# Altium schematic symbol library WR-WTB_1.00mm.SchLib: 14 symbols
Pins are listed as number, name and electrical type; pins without a type are passive.

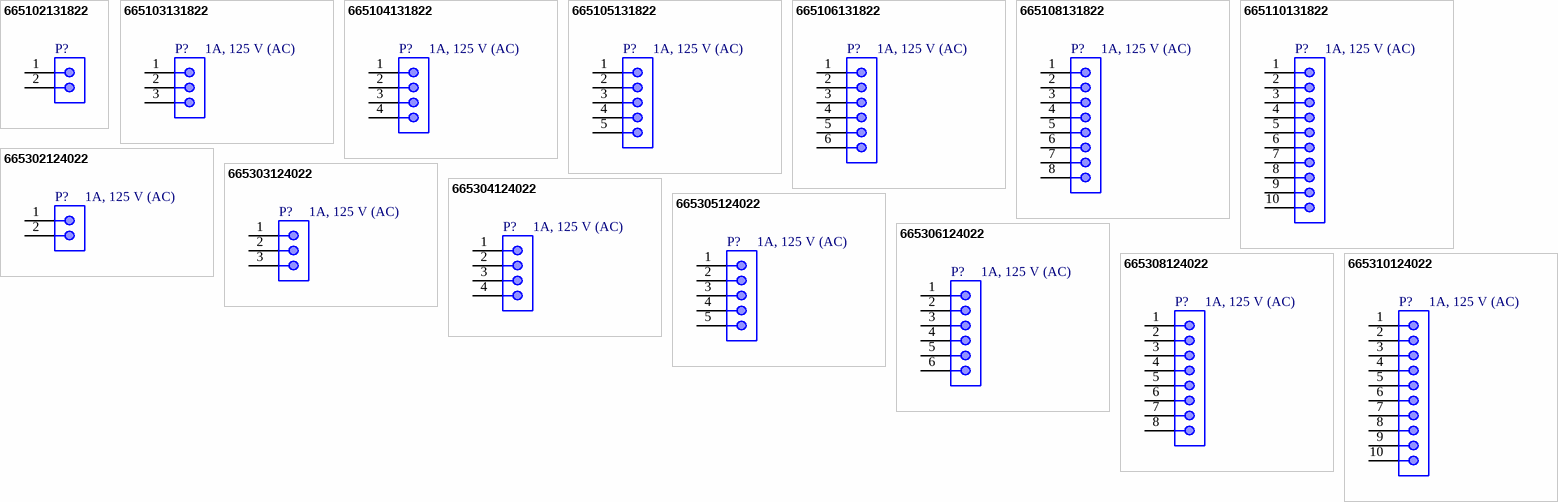
[diagram p0: symbols 665102131822 to 665310124022]

## 665102131822
designator P?, comment 1A, 125 V (AC)  (value not drawn)
WR-WTB SMT Male Horizontal Shrouded Header, pitch 1mm, 2p; Part Number: 665102131822; Contact Resistance: 20mOhm; Withstanding Voltage: 500VAC; Working Voltage: 50VAC; Pin Number: 2; ComponentLink1Description: Manufacturer; ComponentLink1URL: http://www.we-online.de; ComponentLink2Description: Datasheet; ComponentLink2URL: https://www.we-online.com/catalog/datasheet/665102131822.pdf; Pitch: 1mm; Published Date: January 2020; Publisher: Wurth Elektronik; Mounting Technology: SMT; Packaging: Tape and Reel; Operating Temperature: -25 to +85degC; Gender: Male; Type: Horizontal; Rated Current: 1A; ComponentLink3Description: Global Supply; ComponentLink3URL: https://www.we-online.com/en/components/products/WTB_1_00_SMT_MALE_HORIZONTAL_SHROUDED_HEADER_6651XX131822?sq=665102131822#665102131822; ComponentLink4Description: Global Supply; ComponentLink4URL: https://www.mouser.vn/ProductDetail/Wurth-Elektronik/665102131822?qs=a9WhcLg8qCyfz%252BqUVI6DEA%3D%3D; Supplier 1 Name: Mouser; Supplier 1 SN: 710-665102131822; Supplier 1 URL: https://www.mouser.vn/ProductDetail/Wurth-Elektronik/665102131822?qs=a9WhcLg8qCyfz%252BqUVI6DEA%3D%3D; Supplier 2 Name: Digi-Key; Supplier 2 SN: N/A; Supplier 2 URL: N/A; Supplier 3 Name: thegioiic; Supplier 3 SN: N/A; Supplier 3 URL: N/A; Value: 1A, 125 V (AC)
footprint 665102131822
pins: 1, 2

## 665103131822
designator P?, comment 1A, 125 V (AC)
WR-WTB SMT Male Horizontal Shrouded Header, pitch 1mm, 3p; Part Number: 665103131822; Pin Number: 3; Contact Resistance: 20mOhm; Withstanding Voltage: 500VAC; Working Voltage: 50VAC; ComponentLink1Description: Manufacturer; ComponentLink1URL: http://www.we-online.de; ComponentLink2Description: Datasheet; ComponentLink2URL: https://www.we-online.com/catalog/datasheet/665103131822.pdf; Pitch: 1mm; Published Date: January 2020; Publisher: Wurth Elektronik; Mounting Technology: SMT; Packaging: Tape and Reel; Operating Temperature: -25 to +85degC; Gender: Male; Type: Horizontal; Rated Current: 1A; ComponentLink3Description: Global Supply; ComponentLink3URL: https://www.we-online.com/en/components/products/WTB_1_00_SMT_MALE_HORIZONTAL_SHROUDED_HEADER_6651XX131822?sq=665103131822#665103131822; ComponentLink4Description: Global Supply; ComponentLink4URL: https://www.mouser.vn/ProductDetail/Wurth-Elektronik/665103131822?qs=a9WhcLg8qCxyoubUoVempg%3D%3D; Supplier 1 Name: Mouser; Supplier 1 SN: 710-665103131822; Supplier 1 URL: https://www.mouser.vn/ProductDetail/Wurth-Elektronik/665103131822?qs=a9WhcLg8qCxyoubUoVempg%3D%3D; Supplier 2 Name: Digi-Key; Supplier 2 SN: N/A; Supplier 2 URL: N/A; Supplier 3 Name: thegioiic; Supplier 3 SN: N/A; Supplier 3 URL: N/A; Value: 1A, 125 V (AC)
footprint 665103131822
pins: 1, 2, 3

## 665104131822
designator P?, comment 1A, 125 V (AC)
WR-WTB SMT Male Horizontal Shrouded Header, pitch 1mm, 4p; Part Number: 665104131822; Pin Number: 4; Contact Resistance: 20mOhm; Withstanding Voltage: 500VAC; Working Voltage: 50VAC; ComponentLink1Description: Manufacturer; ComponentLink1URL: http://www.we-online.de; ComponentLink2Description: Datasheet; ComponentLink2URL: https://www.we-online.com/catalog/datasheet/665104131822.pdf; Pitch: 1mm; Published Date: January 2020; Publisher: Wurth Elektronik; Mounting Technology: SMT; Packaging: Tape and Reel; Operating Temperature: -25 to +85degC; Gender: Male; Type: Horizontal; Rated Current: 1A; ComponentLink3Description: Global Supply; ComponentLink3URL: https://www.we-online.com/en/components/products/WTB_1_00_SMT_MALE_HORIZONTAL_SHROUDED_HEADER_6651XX131822?sq=665104131822#665104131822; ComponentLink4Description: Global Supply; ComponentLink4URL: https://www.mouser.vn/ProductDetail/Wurth-Elektronik/665104131822?qs=a9WhcLg8qCxe2o4Xu%2FqBdg%3D%3D; Supplier 1 Name: Mouser; Supplier 1 SN: 710-665104131822; Supplier 1 URL: https://www.mouser.vn/ProductDetail/Wurth-Elektronik/665104131822?qs=a9WhcLg8qCxe2o4Xu%2FqBdg%3D%3D; Supplier 2 Name: Digi-Key; Supplier 2 SN: N/A; Supplier 2 URL: N/A; Supplier 3 Name: thegioiic; Supplier 3 SN: N/A; Supplier 3 URL: N/A; Value: 1A, 125 V (AC)
footprint 665104131822
pins: 1, 2, 3, 4

## 665105131822
designator P?, comment 1A, 125 V (AC)
WR-WTB SMT Male Horizontal Shrouded Header, pitch 1mm, 5p; Part Number: 665105131822; Pin Number: 5; Contact Resistance: 20mOhm; Withstanding Voltage: 500VAC; Working Voltage: 50VAC; ComponentLink1Description: Manufacturer; ComponentLink1URL: http://www.we-online.de; ComponentLink2Description: Datasheet; ComponentLink2URL: https://www.we-online.com/catalog/datasheet/665105131822.pdf; Pitch: 1mm; Published Date: January 2020; Publisher: Wurth Elektronik; Mounting Technology: SMT; Packaging: Tape and Reel; Operating Temperature: -25 to +85degC; Gender: Male; Type: Horizontal; Rated Current: 1A; ComponentLink3Description: Global Supply; ComponentLink3URL: https://www.we-online.com/en/components/products/WTB_1_00_SMT_MALE_HORIZONTAL_SHROUDED_HEADER_6651XX131822?sq=665105131822#665105131822; ComponentLink4Description: Local Supply; ComponentLink4URL: https://www.mouser.vn/ProductDetail/Wurth-Elektronik/665105131822?qs=a9WhcLg8qCxS6l8cra2J9Q%3D%3D; Supplier 1 Name: Mouser; Supplier 1 SN: 710-665105131822; Supplier 1 URL: https://www.mouser.vn/ProductDetail/Wurth-Elektronik/665105131822?qs=a9WhcLg8qCxS6l8cra2J9Q%3D%3D; Supplier 2 Name: Digi-Key; Supplier 2 SN: N/A; Supplier 2 URL: N/A; Supplier 3 Name: thegioiic; Supplier 3 SN: N/A; Supplier 3 URL: N/A; Value: 1A, 125 V (AC)
footprint 665105131822
pins: 1, 2, 3, 4, 5

## 665106131822
designator P?, comment 1A, 125 V (AC)
WR-WTB SMT Male Horizontal Shrouded Header, pitch 1mm, 6p; Part Number: 665106131822; Pin Number: 6; Contact Resistance: 20mOhm; Withstanding Voltage: 500VAC; Working Voltage: 50VAC; ComponentLink1Description: Manufacturer; ComponentLink1URL: http://www.we-online.de; ComponentLink2Description: Datasheet; ComponentLink2URL: https://www.we-online.com/catalog/datasheet/665106131822.pdf; Pitch: 1mm; Published Date: January 2020; Publisher: Wurth Elektronik; Mounting Technology: SMT; Packaging: Tape and Reel; Operating Temperature: -25 to +85degC; Gender: Male; Type: Horizontal; Rated Current: 1A; ComponentLink3Description: Global Supply; ComponentLink3URL: https://www.mouser.vn/ProductDetail/Wurth-Elektronik/665106131822?qs=a9WhcLg8qCzjoKPkPpCp%2FA%3D%3D; ComponentLink4Description: Global Supply; ComponentLink4URL: https://www.we-online.com/en/components/products/WTB_1_00_SMT_MALE_HORIZONTAL_SHROUDED_HEADER_6651XX131822?sq=665106131822#665106131822; Supplier 1 Name: Mouser; Supplier 1 SN: 710-665106131822; Supplier 1 URL: https://www.mouser.vn/ProductDetail/Wurth-Elektronik/665106131822?qs=a9WhcLg8qCzjoKPkPpCp%2FA%3D%3D; Supplier 2 Name: Digi-Key; Supplier 2 SN: N/A; Supplier 2 URL: N/A; Supplier 3 Name: thegioiic; Supplier 3 SN: N/A; Supplier 3 URL: N/A; Value: 1A, 125 V (AC)
footprint 665106131822
pins: 1, 2, 3, 4, 5, 6

## 665108131822
designator P?, comment 1A, 125 V (AC)
WR-WTB SMT Male Horizontal Shrouded Header, pitch 1mm, 8p; Part Number: 665108131822; Pin Number: 8; Contact Resistance: 20mOhm; Withstanding Voltage: 500VAC; Working Voltage: 50VAC; ComponentLink1Description: Manufacturer; ComponentLink1URL: http://www.we-online.de; ComponentLink2Description: Datasheet; ComponentLink2URL: https://www.we-online.com/catalog/datasheet/665108131822.pdf; Pitch: 1mm; Published Date: January 2020; Publisher: Wurth Elektronik; Mounting Technology: SMT; Packaging: Tape and Reel; Operating Temperature: -25 to +85degC; Gender: Male; Type: Horizontal; Rated Current: 1A; ComponentLink3Description: Global Supply; ComponentLink3URL: https://www.we-online.com/en/components/products/WTB_1_00_SMT_MALE_HORIZONTAL_SHROUDED_HEADER_6651XX131822?sq=665108131822#665108131822; ComponentLink4Description: Global Supply; ComponentLink4URL: https://www.mouser.vn/ProductDetail/Wurth-Elektronik/665108131822?qs=a9WhcLg8qCyjJKQ1fQ4DGg%3D%3D; Supplier 1 Name: Mouser; Supplier 1 SN: 710-665108131822; Supplier 1 URL: https://www.mouser.vn/ProductDetail/Wurth-Elektronik/665108131822?qs=a9WhcLg8qCyjJKQ1fQ4DGg%3D%3D; Supplier 2 Name: Digi-Key; Supplier 2 SN: N/A; Supplier 2 URL: N/A; Supplier 3 Name: thegioiic; Supplier 3 SN: N/A; Supplier 3 URL: N/A; Value: 1A, 125 V (AC)
footprint 665108131822
pins: 1, 2, 3, 4, 5, 6, 7, 8

## 665110131822
designator P?, comment 1A, 125 V (AC)
WR-WTB SMT Male Horizontal Shrouded Header, pitch 1mm, 10p; Part Number: 665110131822; Pin Number: 10; Contact Resistance: 20mOhm; Withstanding Voltage: 500VAC; Working Voltage: 50VAC; ComponentLink1Description: Manufacturer; ComponentLink1URL: http://www.we-online.de; ComponentLink2Description: Datasheet; ComponentLink2URL: https://www.we-online.com/catalog/datasheet/665110131822.pdf; Pitch: 1mm; Published Date: January 2020; Publisher: Wurth Elektronik; Mounting Technology: SMT; Packaging: Tape and Reel; Operating Temperature: -25 to +85degC; Gender: Male; Type: Horizontal; Rated Current: 1A; ComponentLink3Description: Global Supply; ComponentLink3URL: https://www.we-online.com/en/components/products/WTB_1_00_SMT_MALE_HORIZONTAL_SHROUDED_HEADER_6651XX131822?sq=665110131822#665110131822; ComponentLink4Description: Global Supply; ComponentLink4URL: https://www.mouser.vn/ProductDetail/Wurth-Elektronik/665110131822?qs=a9WhcLg8qCwEjDOe0bibPQ%3D%3D; Supplier 1 Name: Mouser; Supplier 1 SN: 710-665110131822; Supplier 1 URL: https://www.mouser.vn/ProductDetail/Wurth-Elektronik/665110131822?qs=a9WhcLg8qCwEjDOe0bibPQ%3D%3D; Supplier 2 Name: Digi-Key; Supplier 2 SN: N/A; Supplier 2 URL: N/A; Supplier 3 Name: thegioiic; Supplier 3 SN: N/A; Supplier 3 URL: N/A; Value: 1A, 125 V (AC)
footprint 665110131822
pins: 1, 2, 3, 4, 5, 6, 7, 8, 9, 10

## 665302124022
designator P?, comment 1A, 125 V (AC)
WR-WTB SMT Male Vertical Shrouded Header, pitch 1mm, 2p; Part Number: 665302124022; Pin Number: 2; Contact Resistance: 20mOhm; Withstanding Voltage: 500VAC; Working Voltage: 50VAC; ComponentLink1Description: Manufacturer; ComponentLink1URL: http://www.we-online.de; ComponentLink2Description: Datasheet; ComponentLink2URL: https://www.we-online.com/catalog/datasheet/665302124022.pdf; Pitch: 1mm; Published Date: January 2020; Publisher: Wurth Elektronik; Mounting Technology: SMT; Packaging: Tape and Reel; Operating Temperature: -25 to +85degC; Gender: Male; Type: Vertical; Rated Current: 1A; ComponentLink3Description: Global Supply; ComponentLink3URL: https://www.we-online.com/en/components/products/WTB_1_00_SMT_MALE_VERTICAL_SHROUDED_HEADER_6653XX124022?sq=665302124022#665302124022; ComponentLink4Description: Global Supply; ComponentLink4URL: https://www.mouser.vn/ProductDetail/Wurth-Elektronik/665302124022?qs=a9WhcLg8qCx0IT99cXBqTA%3D%3D; Supplier 1 Name: Mouser; Supplier 1 SN: 710-665302124022; Supplier 1 URL: https://www.mouser.vn/ProductDetail/Wurth-Elektronik/665302124022?qs=a9WhcLg8qCx0IT99cXBqTA%3D%3D; Supplier 2 Name: Digi-Key; Supplier 2 SN: N/A; Supplier 2 URL: N/A; Supplier 3 Name: thegioiic; Supplier 3 SN: N/A; Supplier 3 URL: N/A; Value: 1A, 125 V (AC)
footprint 665302124022
pins: 1, 2

## 665303124022
designator P?, comment 1A, 125 V (AC)
WR-WTB SMT Male Vertical Shrouded Header, pitch 1mm, 3p; Part Number: 665303124022; Pin Number: 3; Contact Resistance: 20mOhm; Withstanding Voltage: 500VAC; Working Voltage: 50VAC; ComponentLink1Description: Manufacturer; ComponentLink1URL: http://www.we-online.de; ComponentLink2Description: Datasheet; ComponentLink2URL: https://www.we-online.com/catalog/datasheet/665303124022.pdf; Pitch: 1mm; Published Date: January 2020; Publisher: Wurth Elektronik; Mounting Technology: SMT; Packaging: Tape and Reel; Operating Temperature: -25 to +85degC; Gender: Male; Type: Vertical; Rated Current: 1A; ComponentLink3Description: Global Supply; ComponentLink3URL: https://www.we-online.com/en/components/products/WTB_1_00_SMT_MALE_VERTICAL_SHROUDED_HEADER_6653XX124022?sq=665303124022#665303124022; ComponentLink4Description: Global Supply; ComponentLink4URL: https://www.mouser.vn/ProductDetail/Wurth-Elektronik/665303124022?qs=a9WhcLg8qCyV5ri9HU4hCQ%3D%3D; Supplier 1 Name: Mouser; Supplier 1 SN: 710-665303124022; Supplier 1 URL: https://www.mouser.vn/ProductDetail/Wurth-Elektronik/665303124022?qs=a9WhcLg8qCyV5ri9HU4hCQ%3D%3D; Supplier 2 Name: Digi-Key; Supplier 2 SN: N/A; Supplier 2 URL: N/A; Supplier 3 Name: thegioiic; Supplier 3 SN: N/A; Supplier 3 URL: N/A; Value: 1A, 125 V (AC)
footprint 665303124022
pins: 1, 2, 3

## 665304124022
designator P?, comment 1A, 125 V (AC)
WR-WTB SMT Male Vertical Shrouded Header, pitch 1mm, 4p; Part Number: 665304124022; Pin Number: 4; Contact Resistance: 20mOhm; Withstanding Voltage: 500VAC; Working Voltage: 50VAC; ComponentLink1Description: Manufacturer; ComponentLink1URL: http://www.we-online.de; ComponentLink2Description: Datasheet; ComponentLink2URL: https://www.we-online.com/catalog/datasheet/665304124022.pdf; Pitch: 1mm; Published Date: January 2020; Publisher: Wurth Elektronik; Mounting Technology: SMT; Packaging: Tape and Reel; Operating Temperature: -25 to +85degC; Gender: Male; Type: Vertical; Rated Current: 1A; ComponentLink3Description: Global Supply; ComponentLink3URL: https://www.we-online.com/en/components/products/WTB_1_00_SMT_MALE_VERTICAL_SHROUDED_HEADER_6653XX124022?sq=665304124022#665304124022; ComponentLink4Description: Global Supply; ComponentLink4URL: https://www.mouser.vn/ProductDetail/Wurth-Elektronik/665304124022?qs=a9WhcLg8qCx8aEna1KcTfg%3D%3D; Supplier 1 Name: Mouser; Supplier 1 SN: 710-665304124022; Supplier 1 URL: https://www.mouser.vn/ProductDetail/Wurth-Elektronik/665304124022?qs=a9WhcLg8qCx8aEna1KcTfg%3D%3D; Supplier 2 Name: Digi-Key; Supplier 2 SN: N/A; Supplier 2 URL: N/A; Supplier 3 Name: thegioiic; Supplier 3 SN: N/A; Supplier 3 URL: N/A; Value: 1A, 125 V (AC)
footprint 665304124022
pins: 1, 2, 3, 4

## 665305124022
designator P?, comment 1A, 125 V (AC)
WR-WTB SMT Male Vertical Shrouded Header, pitch 1mm, 5p; Part Number: 665305124022; Pin Number: 5; Contact Resistance: 20mOhm; Withstanding Voltage: 500VAC; Working Voltage: 50VAC; ComponentLink1Description: Manufacturer; ComponentLink1URL: http://www.we-online.de; ComponentLink2Description: Datasheet; ComponentLink2URL: https://www.we-online.com/catalog/datasheet/665305124022.pdf; Pitch: 1mm; Published Date: January 2020; Publisher: Wurth Elektronik; Mounting Technology: SMT; Packaging: Tape and Reel; Operating Temperature: -25 to +85degC; Gender: Male; Type: Vertical; Rated Current: 1A; ComponentLink3Description: Global Supply; ComponentLink3URL: https://www.we-online.com/en/components/products/WTB_1_00_SMT_MALE_VERTICAL_SHROUDED_HEADER_6653XX124022?sq=665305124022#665305124022; ComponentLink4Description: Global Supply; ComponentLink4URL: https://www.mouser.vn/ProductDetail/Wurth-Elektronik/665305124022?qs=a9WhcLg8qCwo9s3v61a5IA%3D%3D; Supplier 1 Name: Mouser; Supplier 1 SN: 710-665305124022; Supplier 1 URL: https://www.mouser.vn/ProductDetail/Wurth-Elektronik/665305124022?qs=a9WhcLg8qCwo9s3v61a5IA%3D%3D; Supplier 2 Name: Digi-Key; Supplier 2 SN: N/A; Supplier 2 URL: N/A; Supplier 3 Name: thegioiic; Supplier 3 SN: N/A; Supplier 3 URL: N/A; Value: 1A, 125 V (AC)
footprint 665305124022
pins: 1, 2, 3, 4, 5

## 665306124022
designator P?, comment 1A, 125 V (AC)
WR-WTB SMT Male Vertical Shrouded Header, pitch 1mm, 6p; Part Number: 665306124022; Pin Number: 6; Contact Resistance: 20mOhm; Withstanding Voltage: 500VAC; Working Voltage: 50VAC; ComponentLink1Description: Manufacturer; ComponentLink1URL: http://www.we-online.de; ComponentLink2Description: Datasheet; ComponentLink2URL: https://www.we-online.com/catalog/datasheet/665306124022.pdf; Pitch: 1mm; Published Date: January 2020; Publisher: Wurth Elektronik; Mounting Technology: SMT; Packaging: Tape and Reel; Operating Temperature: -25 to +85degC; Gender: Male; Type: Vertical; Rated Current: 1A; ComponentLink3Description: Global Supply; ComponentLink3URL: https://www.we-online.com/en/components/products/WTB_1_00_SMT_MALE_VERTICAL_SHROUDED_HEADER_6653XX124022?sq=665306124022#665306124022; ComponentLink4Description: Global Supply; ComponentLink4URL: https://www.mouser.vn/ProductDetail/Wurth-Elektronik/665306124022?qs=a9WhcLg8qCxSEVNGK%2FCChQ%3D%3D; Supplier 1 Name: Mouser; Supplier 1 SN: 710-665306124022; Supplier 1 URL: https://www.mouser.vn/ProductDetail/Wurth-Elektronik/665306124022?qs=a9WhcLg8qCxSEVNGK%2FCChQ%3D%3D; Supplier 2 Name: Digi-Key; Supplier 2 SN: N/A; Supplier 2 URL: N/A; Supplier 3 Name: thegioiic; Supplier 3 SN: N/A; Supplier 3 URL: N/A; Value: 1A, 125 V (AC)
footprint 665306124022
pins: 1, 2, 3, 4, 5, 6

## 665308124022
designator P?, comment 1A, 125 V (AC)
WR-WTB SMT Male Vertical Shrouded Header, pitch 1mm, 8p; Part Number: 665308124022; Pin Number: 8; Contact Resistance: 20mOhm; Withstanding Voltage: 500VAC; Working Voltage: 50VAC; ComponentLink1Description: Manufacturer; ComponentLink1URL: http://www.we-online.de; ComponentLink2Description: Datasheet; ComponentLink2URL: https://www.we-online.com/catalog/datasheet/665308124022.pdf; Pitch: 1mm; Published Date: January 2020; Publisher: Wurth Elektronik; Mounting Technology: SMT; Packaging: Tape and Reel; Operating Temperature: -25 to +85degC; Gender: Male; Type: Vertical; Rated Current: 1A; ComponentLink3Description: Global Supply; ComponentLink3URL: https://www.we-online.com/en/components/products/WTB_1_00_SMT_MALE_VERTICAL_SHROUDED_HEADER_6653XX124022?sq=665308124022#665308124022; ComponentLink4Description: Global Supply; ComponentLink4URL: https://www.mouser.vn/ProductDetail/Wurth-Elektronik/665308124022?qs=a9WhcLg8qCyktw513mQiKg%3D%3D; Supplier 1 Name: Mouser; Supplier 1 SN: 710-665308124022; Supplier 1 URL: https://www.mouser.vn/ProductDetail/Wurth-Elektronik/665308124022?qs=a9WhcLg8qCyktw513mQiKg%3D%3D; Supplier 2 Name: Digi-Key; Supplier 2 SN: N/A; Supplier 2 URL: N/A; Supplier 3 Name: thegioiic; Supplier 3 SN: N/A; Supplier 3 URL: N/A; Value: 1A, 125 V (AC)
footprint 665308124022
pins: 1, 2, 3, 4, 5, 6, 7, 8

## 665310124022
designator P?, comment 1A, 125 V (AC)
WR-WTB SMT Male Vertical Shrouded Header, pitch 1mm, 10p; Part Number: 665310124022; Pin Number: 10; Contact Resistance: 20mOhm; Withstanding Voltage: 500VAC; Working Voltage: 50VAC; ComponentLink1Description: Manufacturer; ComponentLink1URL: http://www.we-online.de; ComponentLink2Description: Datasheet; ComponentLink2URL: https://www.we-online.com/catalog/datasheet/665310124022.pdf; Pitch: 1mm; Published Date: January 2020; Publisher: Wurth Elektronik; Mounting Technology: SMT; Packaging: Tape and Reel; Operating Temperature: -25 to +85degC; Gender: Male; Type: Vertical; Rated Current: 1A; ComponentLink3Description: Global Supply; ComponentLink3URL: https://www.we-online.com/en/components/products/WTB_1_00_SMT_MALE_VERTICAL_SHROUDED_HEADER_6653XX124022?sq=665310124022#665310124022; ComponentLink4Description: Global Supply; ComponentLink4URL: https://www.mouser.vn/ProductDetail/Wurth-Elektronik/665310124022?qs=a9WhcLg8qCwxv%252BltsO6F6Q%3D%3D; Supplier 1 Name: Mouser; Supplier 1 SN: 710-665310124022; Supplier 1 URL: https://www.mouser.vn/ProductDetail/Wurth-Elektronik/665310124022?qs=a9WhcLg8qCwxv%252BltsO6F6Q%3D%3D; Supplier 2 Name: Digi-Key; Supplier 2 SN: N/A; Supplier 2 URL: N/A; Supplier 3 Name: thegioiic; Supplier 3 SN: N/A; Supplier 3 URL: N/A; Value: 1A, 125 V (AC)
footprint 665310124022
pins: 1, 2, 3, 4, 5, 6, 7, 8, 9, 10